# EAGLE library part ISP (library Radicon_connectors)
ISP
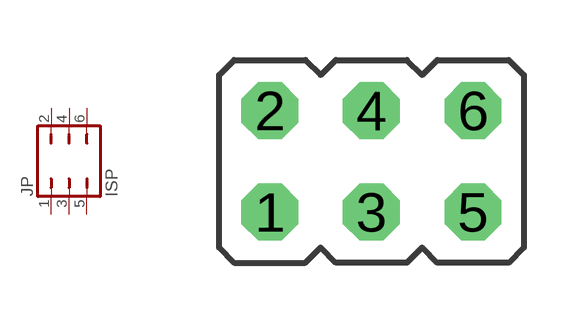
[diagram p8: symbol with the pads of JP3Q; footprint JP3Q]

Designator prefix JP

## ISP  [JP3Q]
1  1  pas
2  2  pas
3  3  pas
4  4  pas
5  5  pas
6  6  pas

## Footprint JP3Q (pad centres in mm)
JUMPER
drill 0.914 octagon: 1 -2.54,-1.27; 2 -2.54,1.27; 3 0,-1.27; 4 0,1.27; 5 2.54,-1.27; 6 2.54,1.27